# EAGLE library part TLW-135-05-G-D (library SAMTEC-Txx_By_element14_Batch_1)
LOW PROFILE HEADER, DOUBLE ROW, 70 way
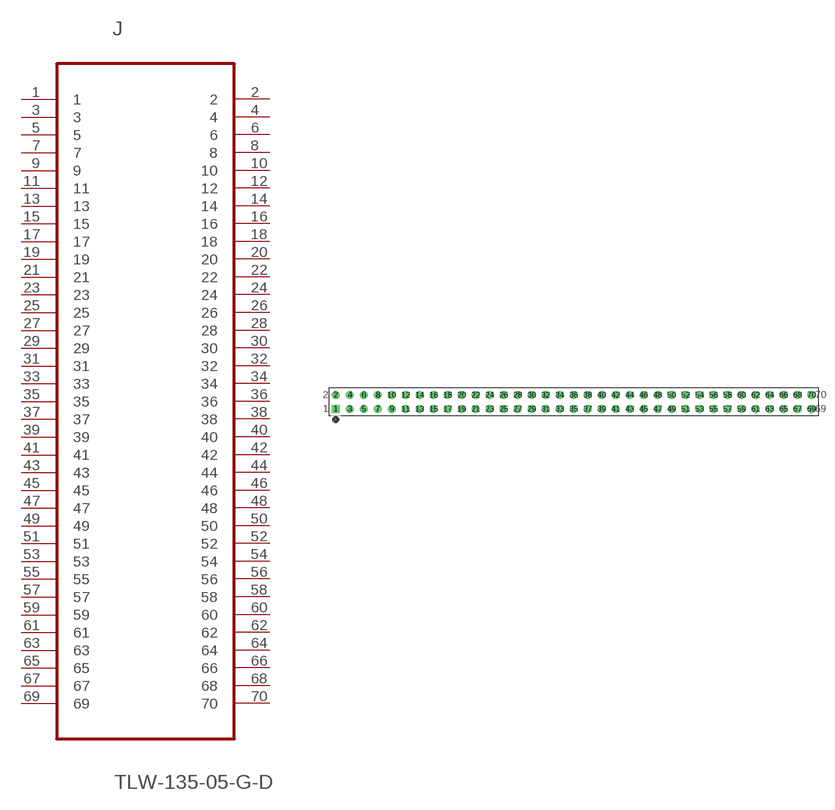
[diagram p364: symbol with the pads of SAMTEC_TLW-135-05-G-D; footprint SAMTEC_TLW-135-05-G-D]

Designator prefix J

## TLW-135-05-G-D (MPN: TLW-135-05-G-D; OC_FARNELL: 2097511; OC_NEWARK: 12P0609; PACKAGE: LOW PROFILE HEADER; SUPPLIER: SAMTEC)  [SAMTEC_TLW-135-05-G-D]
1  1  pas
2  2  pas
3  3  pas
4  4  pas
5  5  pas
6  6  pas
7  7  pas
8  8  pas
9  9  pas
10  10  pas
11  11  pas
12  12  pas
13  13  pas
14  14  pas
15  15  pas
16  16  pas
17  17  pas
18  18  pas
19  19  pas
20  20  pas
21  21  pas
22  22  pas
23  23  pas
24  24  pas
25  25  pas
26  26  pas
27  27  pas
28  28  pas
29  29  pas
30  30  pas
31  31  pas
32  32  pas
33  33  pas
34  34  pas
35  35  pas
36  36  pas
37  37  pas
38  38  pas
39  39  pas
40  40  pas
41  41  pas
42  42  pas
43  43  pas
44  44  pas
45  45  pas
46  46  pas
47  47  pas
48  48  pas
49  49  pas
50  50  pas
51  51  pas
52  52  pas
53  53  pas
54  54  pas
55  55  pas
56  56  pas
57  57  pas
58  58  pas
59  59  pas
60  60  pas
61  61  pas
62  62  pas
63  63  pas
64  64  pas
65  65  pas
66  66  pas
67  67  pas
68  68  pas
69  69  pas
70  70  pas

## Footprint SAMTEC_TLW-135-05-G-D (pad centres in mm)
drill 1.016 square: 1 -86.36,-2.54
drill 1.016: 2 -86.36,0; 3 -83.82,-2.54; 4 -83.82,0; 5 -81.28,-2.54; 6 -81.28,0; 7 -78.74,-2.54; 8 -78.74,0; 9 -76.2,-2.54; 10 -76.2,0; 11 -73.66,-2.54; 12 -73.66,0; 13 -71.12,-2.54; 14 -71.12,0; 15 -68.58,-2.54; 16 -68.58,0; 17 -66.04,-2.54; 18 -66.04,0; 19 -63.5,-2.54; 20 -63.5,0; 21 -60.96,-2.54; 22 -60.96,0; 23 -58.42,-2.54; 24 -58.42,0; 25 -55.88,-2.54; 26 -55.88,0; 27 -53.34,-2.54; 28 -53.34,0; 29 -50.8,-2.54; 30 -50.8,0; 31 -48.26,-2.54; 32 -48.26,0; 33 -45.72,-2.54; 34 -45.72,0; 35 -43.18,-2.54; 36 -43.18,0; 37 -40.64,-2.54; 38 -40.64,0; 39 -38.1,-2.54; 40 -38.1,0; 41 -35.56,-2.54; 42 -35.56,0; 43 -33.02,-2.54; 44 -33.02,0; 45 -30.48,-2.54; 46 -30.48,0; 47 -27.94,-2.54; 48 -27.94,0; 49 -25.4,-2.54; 50 -25.4,0; 51 -22.86,-2.54; 52 -22.86,0; 53 -20.32,-2.54; 54 -20.32,0; 55 -17.78,-2.54; 56 -17.78,0; 57 -15.24,-2.54; 58 -15.24,0; 59 -12.7,-2.54; 60 -12.7,0; 61 -10.16,-2.54; 62 -10.16,0; 63 -7.62,-2.54; 64 -7.62,0; 65 -5.08,-2.54; 66 -5.08,0; 67 -2.54,-2.54; 68 -2.54,0; 69 0,-2.54; 70 0,0